# Altium footprint library APTF1616SURKCGKSYKC.PcbLib: 1 footprints
Each footprint in its own frame and in the unit in brackets; x right, y up, seen from the top. Pads: shape width x height; smd on the part's side, far side on the other; paste and mask are expansions set on the pad; w line width, h text height; cw(c..) or ccw(c..) is an arc to the next point about the centre after c.
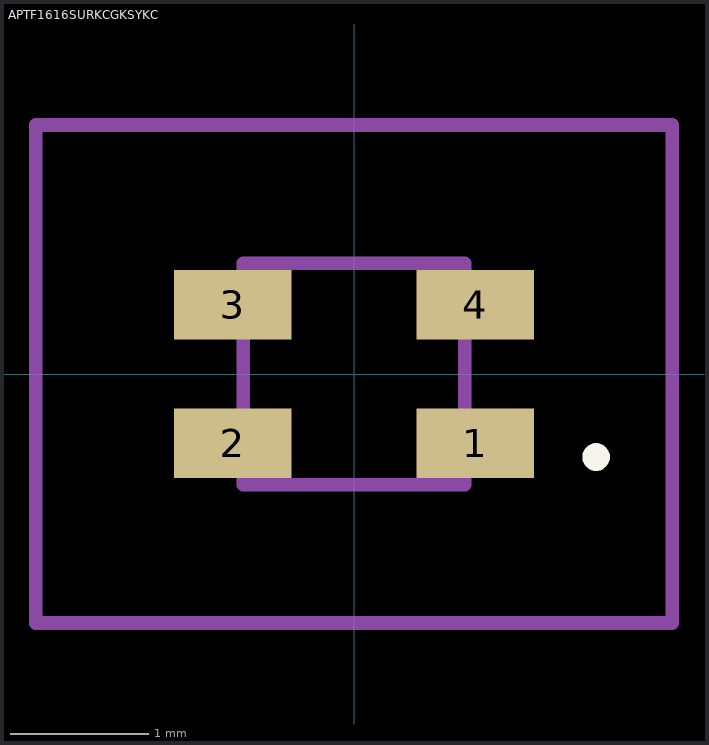
[diagram p0: the footprint, top view; thin cyan lines are the x and y axes]

## APTF1616SURKCGKSYKC [mm]
pads (4):
  rect 0.85x0.5 smd: 1(0.875,-0.5) 2(-0.875,-0.5) 3(-0.875,0.5) 4(0.875,0.5)
Top Overlay:
  lines w0.1: 1.7,-0.6 cw(c1.75,-0.6) 1.8,-0.6 cw(c1.75,-0.6) 1.7,-0.6
Mechanical 15:
  lines w0.1: -0.8,-0.8 0.8,-0.8 0.8,0.8 -0.8,0.8 -0.8,-0.8
Mechanical 20:
  lines w0.1: -2.3,-1.8 2.3,-1.8 2.3,1.8 -2.3,1.8 -2.3,-1.8
3D body "APTF1616SURKCGKSYKC.stp": height 0.7, standoff 0, extent -0.8,-0.8 0.8,0.8